# Altium footprint library MF3.0 2x02MR.PcbLib: 1 footprints
Each footprint in its own frame and in the unit in brackets; x right, y up, seen from the top. Pads: shape width x height; smd on the part's side, far side on the other; paste and mask are expansions set on the pad; w line width, h text height; cw(c..) or ccw(c..) is an arc to the next point about the centre after c.
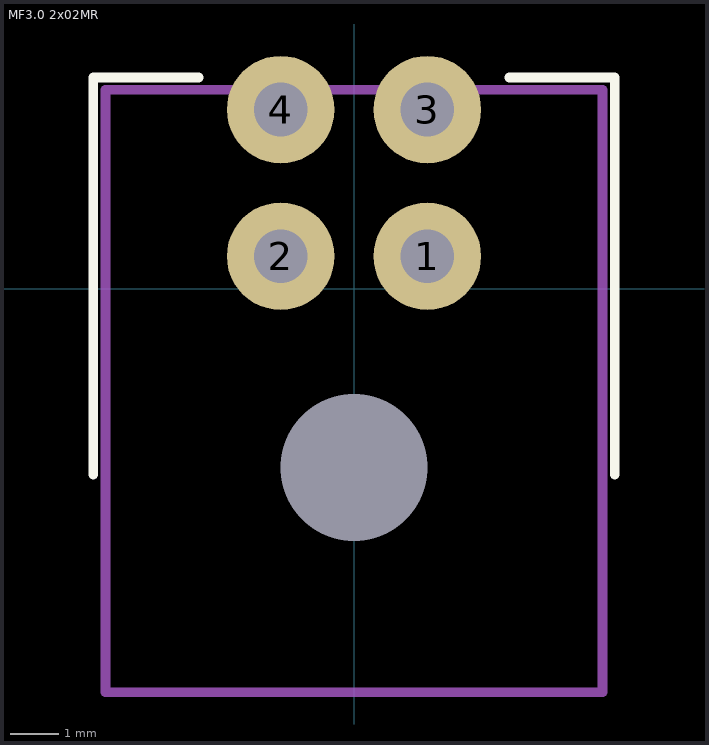
[diagram p0: the footprint, top view; thin cyan lines are the x and y axes]

## MF3.0 2x02MR [mm]
pads (5):
  round 2.2 hole 1.1: 1(1.5,0.66) 2(-1.5,0.66) 3(1.5,3.66) 4(-1.5,3.66)
  round 0 hole 3 unplated: MH(0,-3.66)
Top Overlay:
  lines w0.2: -5.334,-3.81 -5.334,4.318 -3.175,4.318 ; 3.175,4.318 5.334,4.318 5.334,-3.81
Mechanical 13:
  lines w0.2: -5.08,-8.255 -5.08,4.064 5.08,4.064 5.08,-8.255 -5.08,-8.255
  text ".Designator" at -2.794,5.334 h1.5
3D body: height 8.83, standoff -3.12, extent -5.075,-8.175 5.075,4.065